# EAGLE library part WS2812S(6PIN) (library DECADE-libraries20151104)
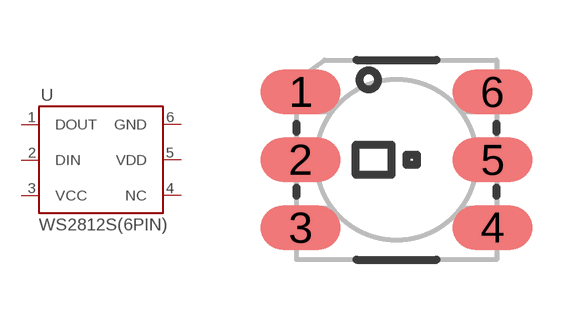
[diagram p113: symbol with the pads of LED-TRICOLOR-5050-IC; footprint LED-TRICOLOR-5050-IC]

Designator prefix -

## WS2812S(6PIN)  [LED-TRICOLOR-5050-IC]
1  DOUT
2  DIN
3  VCC
4  NC
5  VDD
6  GND

## Footprint LED-TRICOLOR-5050-IC (pad centres in mm)
smd 2 x 1.1: 1 -2.4,1.7; 2 -2.4,0; 3 -2.4,-1.7; 4 2.4,-1.7; 5 2.4,0; 6 2.4,1.7